# Altium schematic symbol library Custom_Lib.SchLib: 11 symbols
Pins are listed as number, name and electrical type; pins without a type are passive.

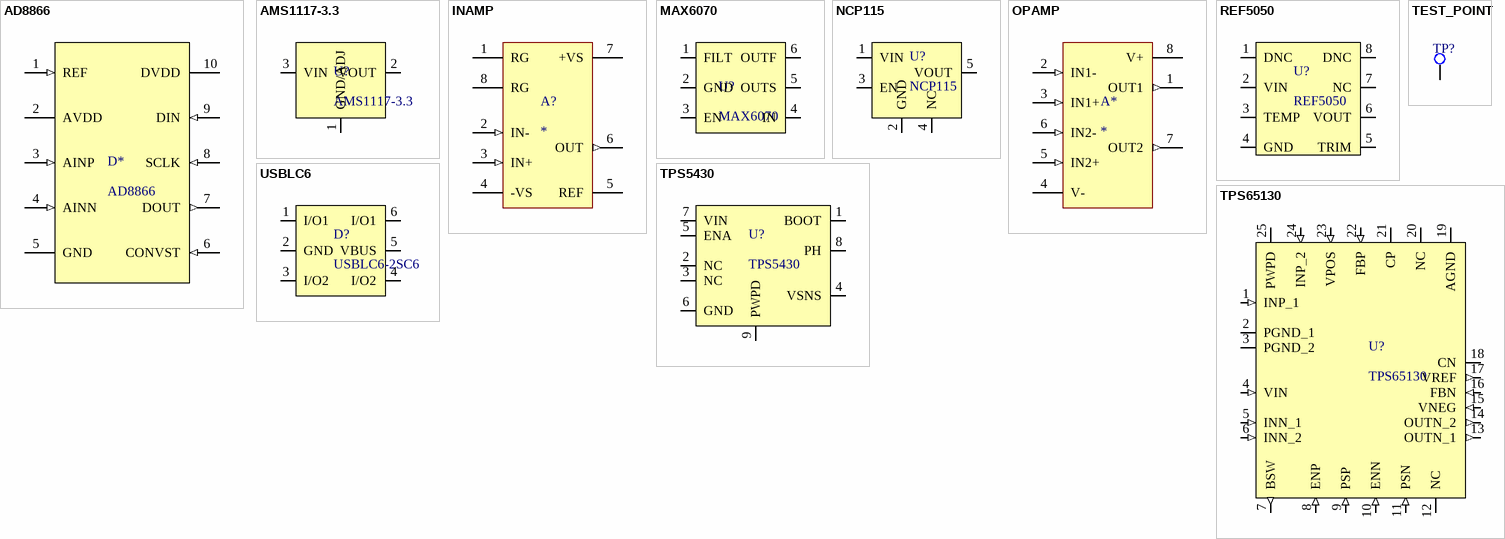
[diagram p0: symbols AD8866 to USBLC6]

## AD8866
designator D*
TI AD8866 16-bit SAR ADC
pins: 1 REF (in), 2 AVDD (power), 3 AINP (in), 4 AINN (in), 5 GND (power), 6 CONVST (in), 7 DOUT (out), 8 SCLK (in), 9 DIN (in), 10 DVDD (power)

## AMS1117-3.3
designator U?
LDO Voltage Regulator
pins: 1 GND/ADJ, 2 VOUT, 3 VIN

## INAMP
designator A?
Instrumentation Amplifier
pins: 1 RG, 2 IN- (in), 3 IN+ (in), 4 -VS (power), 5 REF, 6 OUT (out), 7 +VS (power), 8 RG

## MAX6070
designator U?
5.0V Voltage Reference, Maxim Integrated
pins: 1 FILT, 2 GND, 3 EN, 4 IN, 5 OUTS, 6 OUTF

## NCP115
designator U?
pins: 1 VIN (power), 2 GND (power), 3 EN, 4 NC, 5 VOUT (power)

## OPAMP
designator A*
Generic operational amplifier symbol
pins: 1 OUT1 (out), 2 IN1- (in), 3 IN1+ (in), 4 V- (power), 5 IN2+ (in), 6 IN2- (in), 7 OUT2 (out), 8 V+ (power)

## REF5050
designator U?
5.0V Precision Voltage Reference, Texas Instruments Inc.
pins: 1 DNC, 2 VIN, 3 TEMP, 4 GND, 5 TRIM, 6 VOUT, 7 NC, 8 DNC

## TEST_POINT
designator TP?, comment TP  (value not drawn)  (no BOM)
Generic test point
footprint TEST-POINT
pins: 0

## TPS5430
designator U?
3-A Step-Down Converter, Texas Instruments, Inc.
pins: 1 BOOT, 2 NC, 3 NC, 4 VSNS, 5 ENA (power), 6 GND, 7 VIN (power), 8 PH, 9 PWPD

## TPS65130
designator U?
TPS6513x Positive and Negative Output DC-DC Converter, Texas Instruments, Inc.
pins: 1 INP_1 (in), 2 PGND_1 (power), 3 PGND_2 (power), 4 VIN (in), 5 INN_1 (in), 6 INN_2 (in), 7 BSW (out), 8 ENP (in), 9 PSP (in), 10 ENN (in), 11 PSN (in), 12 NC, 13 OUTN_1 (out), 14 OUTN_2 (out), 15 VNEG (in), 16 FBN (in), 17 VREF (out), 18 CN, 19 AGND (power), 20 NC, 21 CP, 22 FBP (in), 23 VPOS (in), 24 INP_2 (in), 25 PWPD

## USBLC6
designator D?, comment USBLC6-2SC6
Very low capacitance ESD protection
pins: 1 I/O1, 2 GND, 3 I/O2, 4 I/O2, 5 VBUS, 6 I/O1